# EAGLE library part SI8600 (library WCSMain)
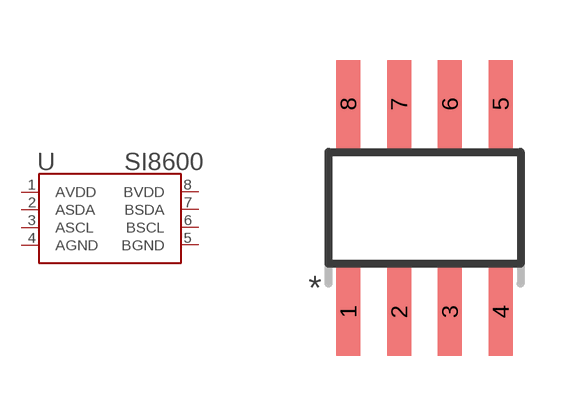
[diagram p17: symbol with the pads of SO8; footprint SO8]

Designator prefix -

## SI8600  [SO8]
1  AVDD  pwr
2  ASDA
3  ASCL
4  AGND  pwr
5  BGND  pwr
6  BSCL
7  BSDA
8  BVDD  pwr

## Footprint SO8 (pad centres in mm)
SMALL OUTLINE INTEGRATED CIRCUIT
smd 0.6 x 2.2: 1 -1.905,-2.6; 2 -0.635,-2.6; 3 0.635,-2.6; 4 1.905,-2.6; 5 1.905,2.6; 6 0.635,2.6; 7 -0.635,2.6; 8 -1.905,2.6